# Altium integrated library mcc.IntLib: 2 symbols
Pins are listed as number, name and electrical type; pins without a type are passive.

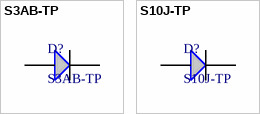
[diagram p0: symbols S3AB-TP to S10J-TP]

## S3AB-TP
designator D?
DIODE GEN PURP 600V 3A
footprint DO-214AA (Silicone Rectififer Diode)
pins: 1, 2

## S10J-TP
designator D?
DIODE GEN PURP 600V 10A
footprint DO-214AB (Silicone Rectififer Diode)
pins: 1, 2